# Altium schematic symbol library Memory_SFLASH.SchLib: 2 symbols
Pins are listed as number, name and electrical type; pins without a type are passive.

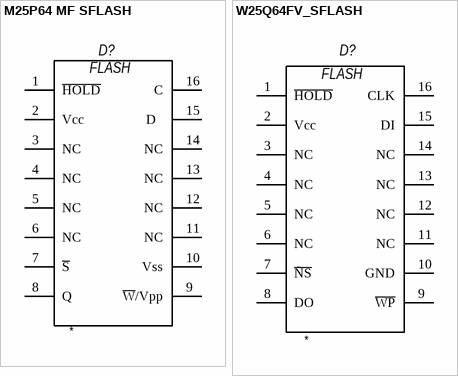
[diagram p0: symbols M25P64 MF SFLASH to W25Q64FV_SFLASH]

## M25P64 MF SFLASH
designator D?
Value: *; Comment_1: *; Type: *
footprint SO-16W
pins: 1 ~{HOLD}, 2 Vcc, 3 NC, 4 NC, 5 NC, 6 NC, 7 ~{S}, 8 Q, 9 ~{W}/Vpp, 10 Vss, 11 NC, 12 NC, 13 NC, 14 NC, 15 D  , 16 C
text: FLASH

## W25Q64FV_SFLASH
designator D?
Value: *; Comment_1: *; Type: *
footprint SO-16W
pins: 1 ~{HOLD}, 2 Vcc, 3 NC, 4 NC, 5 NC, 6 NC, 7 ~{ÑS}, 8 DO, 9 ~{WP}, 10 GND, 11 NC, 12 NC, 13 NC, 14 NC, 15 DI, 16 CLK
text: FLASH